# Altium footprint library ds1029_2_mrw6xb.PcbLib: 1 footprints
Each footprint in its own frame and in the unit in brackets; x right, y up, seen from the top. Pads: shape width x height; smd on the part's side, far side on the other; paste and mask are expansions set on the pad; w line width, h text height; cw(c..) or ccw(c..) is an arc to the next point about the centre after c.
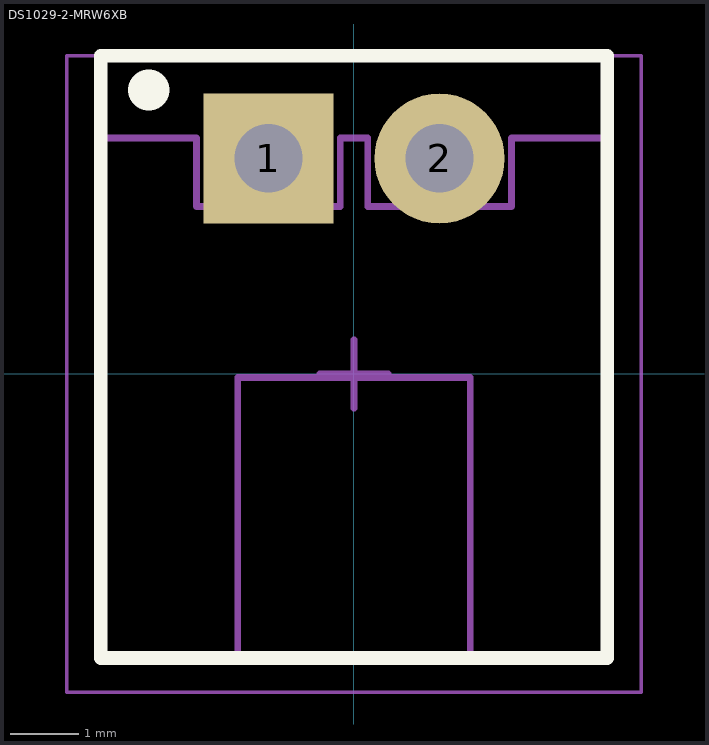
[diagram p0: the footprint, top view; thin cyan lines are the x and y axes]

## DS1029-2-MRW6XB [mm]
height 5.8
pads (2):
  rect 1.9x1.9 hole 1: 1(-1.25,3.15)
  round 1.9 hole 1: 2(1.25,3.15)
Top Overlay:
  circle w0.6: c-3,4.15 r0.001
  lines w0.2: -3.7,-4.15 3.7,-4.15 3.7,4.65 -3.7,4.65 -3.7,-4.15
Top Comment:
  text ".Comment" at 1,5.5 h1.2
Top Designator:
  text ".Designator" at -0.5,5.5 h1.2
Top Component Outline:
  lines w0.1: -1.7,-4.15 -1.7,-0.05 1.7,-0.05 1.7,-4.15 ; -3.7,-4.15 3.7,-4.15 3.7,3.45 2.3,3.45 2.3,2.45 0.2,2.45 0.2,3.45 -0.2,3.45 -0.2,2.45 -2.3,2.45 -2.3,3.45 -3.7,3.45 -3.7,-4.15
Top Courtyard:
  lines w0.05: -4.2,-4.65 4.2,-4.65 4.2,4.65 -4.2,4.65 -4.2,-4.65
  lines w0.1: -0.5,0 0.5,0 ; 0,-0.5 0,0.5
3D body "DS1069-2 MR.STEP": height 5.75, standoff -3.4, extent -3.7,-4.17 3.7,3.47